# EAGLE library part CON_SWD_1.27_SMD (library con-swd)
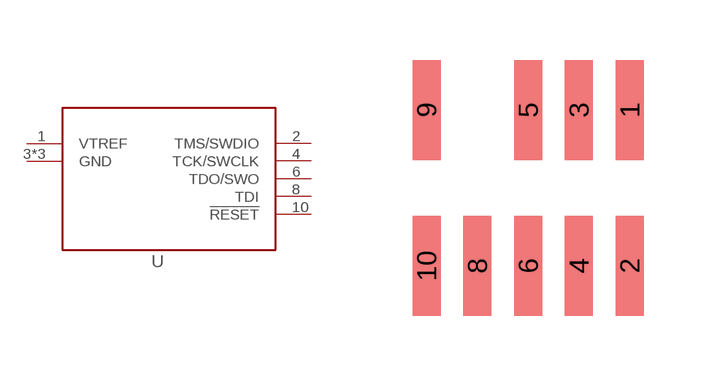
[diagram p0: symbol with the pads of CON_SWD_1.27_SMD; footprint CON_SWD_1.27_SMD]

Designator prefix -

## CON_SWD_1.27_SMD  [CON_SWD_1.27_SMD]
1  VTREF
2  TMS/SWDIO
3  GND
4  TCK/SWCLK
5  GND
6  TDO/SWO
8  TDI
9  GND
10  !RESET

## Footprint CON_SWD_1.27_SMD (pad centres in mm)
smd 0.7 x 2.5: 1 2.54,1.95; 2 2.54,-1.95; 3 1.27,1.95; 4 1.27,-1.95; 5 0,1.95; 6 0,-1.95; 8 -1.27,-1.95; 9 -2.54,1.95; 10 -2.54,-1.95